# EAGLE library part SFML-107-01-L-D-A (library SFML-107-01-L-D-A)
Check availability <https://pricing.snapeda.com/parts/SFML-107-01-L-D-A/Samtec%20Inc./view-part?ref=eda>
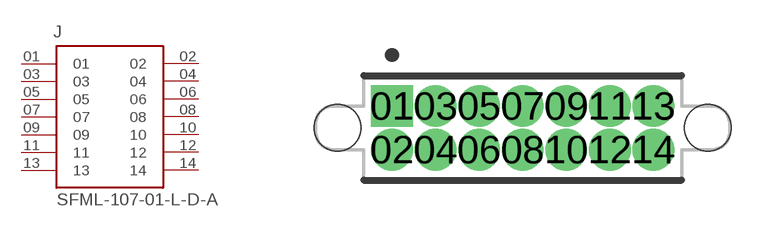
[diagram p0: symbol with the pads of SAMTEC_SFML-107-01-L-D-A; footprint SAMTEC_SFML-107-01-L-D-A]

Designator prefix J

## SFML-107-01-L-D-A (Availability: In Stock; Description: SFML Series .050 Tiger Eye™ High-Reliability Locking Socket Strip; MF: Samtec Inc.; MP: SFML-107-01-L-D-A; Package: None; Price: None; Purchase-URL: https://pricing.snapeda.com/search/part/SFML-107-01-L-D-A/?ref=eda)  [SAMTEC_SFML-107-01-L-D-A]
01  01  pas
02  02  pas
03  03  pas
04  04  pas
05  05  pas
06  06  pas
07  07  pas
08  08  pas
09  09  pas
10  10  pas
11  11  pas
12  12  pas
13  13  pas
14  14  pas

## Footprint SAMTEC_SFML-107-01-L-D-A (pad centres in mm)
drill 0.71 pad 1.06 square: 01 -3.81,0.635
drill 0.71 pad 1.06: 02 -3.81,-0.635; 03 -2.54,0.635; 04 -2.54,-0.635; 05 -1.27,0.635; 06 -1.27,-0.635; 07 0,0.635; 08 0,-0.635; 09 1.27,0.635; 10 1.27,-0.635; 11 2.54,0.635; 12 2.54,-0.635; 13 3.81,0.635; 14 3.81,-0.635
hole 1.35 at -5.4,0
hole 1.35 at 5.4,0